# Altium footprint library TMDX654GPEVM_BRD.PcbLib: 153 footprints (part 7 of 12)
Each footprint in its own frame and in the unit in brackets; x right, y up, seen from the top. Pads: shape width x height; smd on the part's side, far side on the other; paste and mask are expansions set on the pad; w line width, h text height; cw(c..) or ccw(c..) is an arc to the next point about the centre after c.
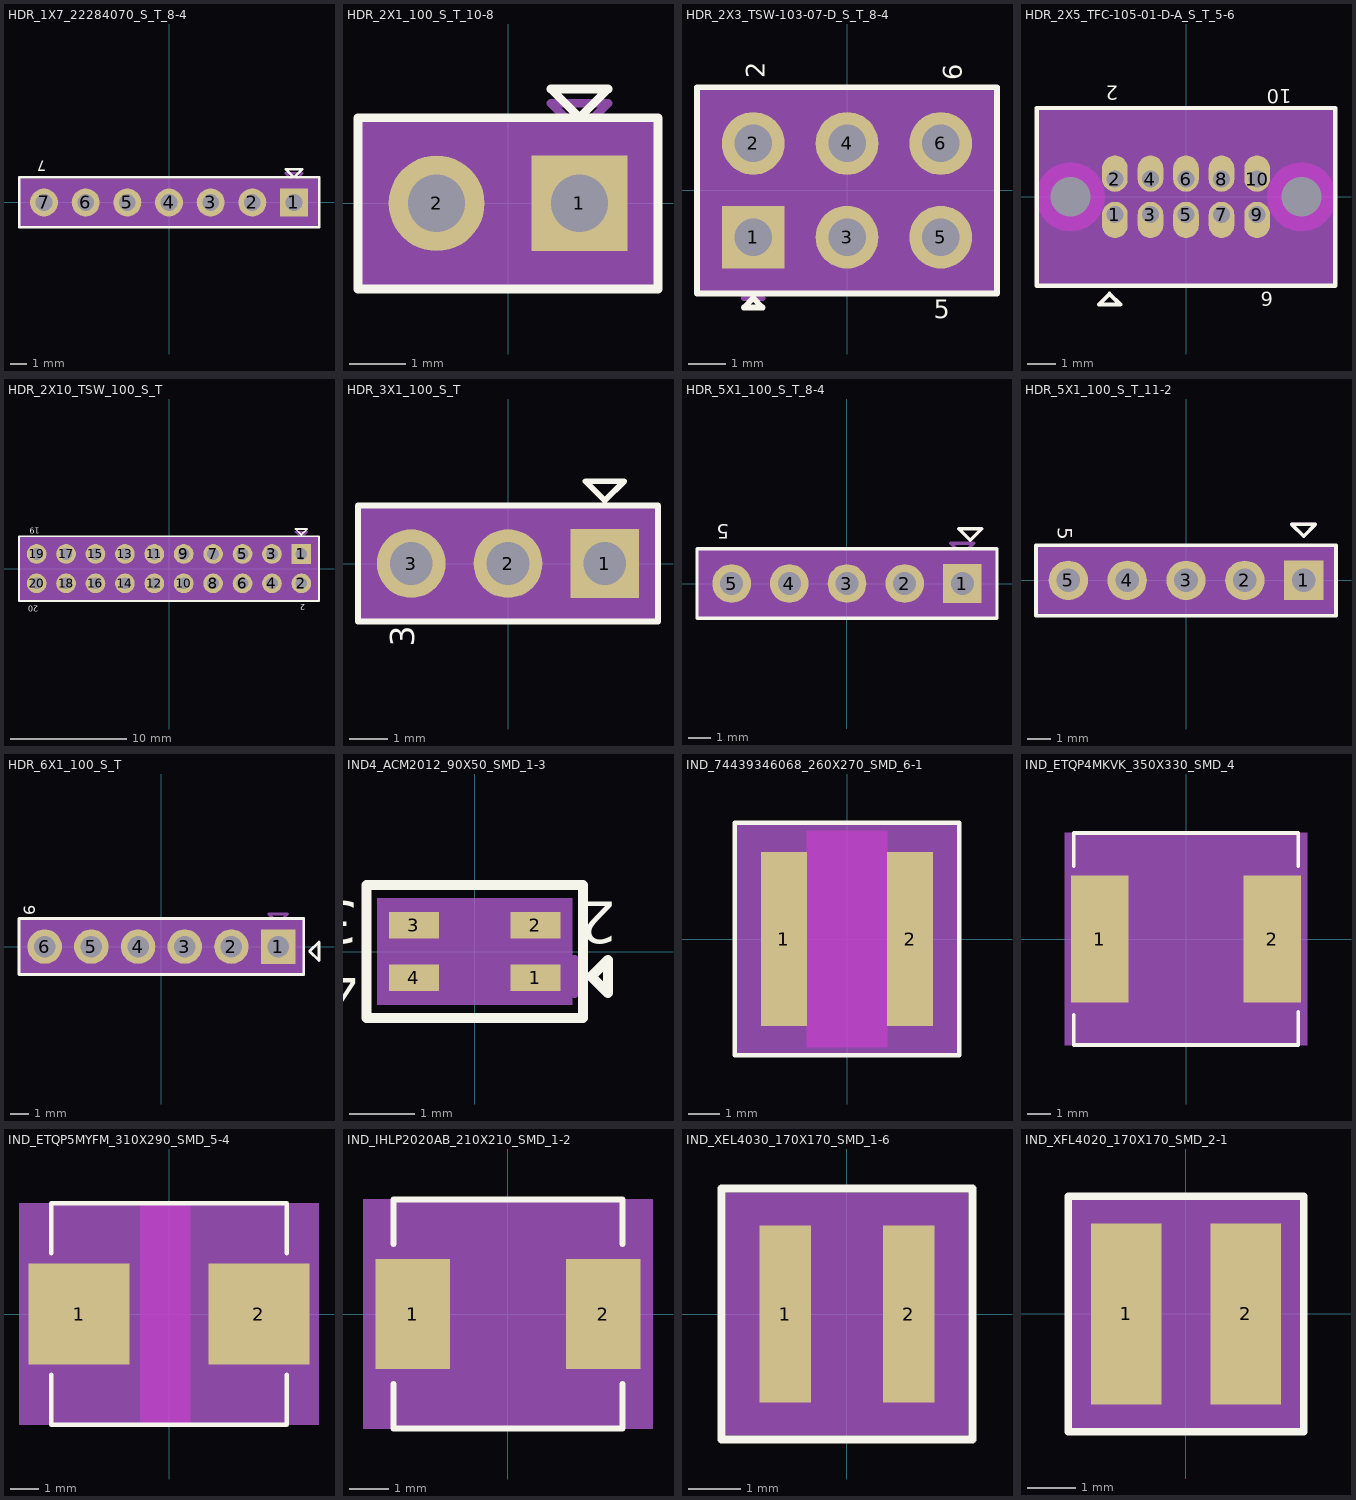
[diagram p6: the footprints below, top view; thin cyan lines are the x and y axes]

## HDR_1X7_22284070_S_T_8-4 [mil] "HDR_1X7_22284070_S_T_8-4"
pads (7):
  rect 67x67 / inner round 67 / far side rect 67x67 hole 40: 1(300,0)
  round 67 hole 40: 2(200,0) 3(100,0) 4(0,0) 5(-100,0) 6(-200,0) 7(-300,0)
Top Overlay:
  lines w6: -360,-60 360,-60 360,60 -360,60 -360,-60 ; 280,80 320,80 300,60 280,80
  text "7" at -294.5,99.5 h25
  text ".Designator" at -366,20 h30
Top Courtyard:
  dashed: -357,-57 357,-57 357,57 -357,57
Top 3D Body:
  region: -350,-50 350,-50 350,50 -350,50
Mechanical 10:
  lines w6: -350,-50 -350,50 350,50 350,-50 -350,-50 ; 280,70 320,70 300,50 280,70
  text "J19" at 31,18 h30
Mechanical 11:
  lines w6: -350,-50 -350,50 350,50 350,-50 -350,-50 ; 280,70 320,70 300,50 280,70
  text "J19" at 31,18 h30
Mechanical 12:
  lines w6: -350,-50 -350,50 350,50 350,-50 -350,-50 ; 280,70 320,70 300,50 280,70
  text "J19" at 31,18 h30
Mechanical 13:
  lines w6: -350,-50 -350,50 350,50 350,-50 -350,-50 ; 280,70 320,70 300,50 280,70
  text "J19" at 31,18 h30
Mechanical 14:
  lines w6: -350,-50 -350,50 350,50 350,-50 -350,-50 ; 280,70 320,70 300,50 280,70
  text "J19" at 31,18 h30
Mechanical47:
  text "1" at 304,-3.33 h10
  text "2" at 204,-3.33 h10
  text "3" at 104,-3.33 h10
  text "4" at 4,-3.33 h10
  text "5" at -96,-3.33 h10
  text "6" at -196,-3.33 h10
  text "7" at -296,-3.33 h10
Top Assembly:
  lines w6: -350,-50 -350,50 350,50 350,-50 -350,-50 ; 280,70 320,70 300,50 280,70
3D body: height 150, standoff 0, extent -350,-50 350,50

## HDR_2X1_100_S_T_10-8 [mil] "HDR_2X1_100_S_T_10-8"
pads (2):
  rect 67x67 / inner round 67 / far side rect 67x67 hole 40: 1(50,0)
  round 67 hole 40: 2(-50,0)
Top Overlay:
  lines w6: -105,-60 105,-60 105,60 -105,60 -105,-60 ; 30,80 70,80 50,60 30,80
  text ".Designator" at -83.02,72.48 h30
Top Courtyard:
  lines w1: -102,-57 102,-57 102,57 -102,57 -102,-57
Top 3D Body:
  region: -105,-60 105,-60 105,60 -105,60
Mechanical 15:
  lines w6: -95,-50 95,-50 95,50 -95,50 -95,-50 ; 30,70 70,70 50,50 30,70
  text "J25" at -19.02,-33.52 h30
Mechanical 16:
  lines w6: -95,-50 95,-50 95,50 -95,50 -95,-50 ; 30,70 70,70 50,50 30,70
  text "J25" at -19.02,-33.52 h30
Mechanical 17:
  lines w6: -95,-50 95,-50 95,50 -95,50 -95,-50 ; 30,70 70,70 50,50 30,70
  text "J25" at -19.02,-33.52 h30
Mechanical 18:
  lines w6: -95,-50 95,-50 95,50 -95,50 -95,-50 ; 30,70 70,70 50,50 30,70
  text "J25" at -19.02,-33.52 h30
Mechanical 19:
  lines w6: -95,-50 95,-50 95,50 -95,50 -95,-50 ; 30,70 70,70 50,50 30,70
  text "J25" at -19.02,-33.52 h30
Mechanical47:
  text "1" at 50,-7.33 h10
  text "2" at -50,-7.33 h10
Top Assembly:
  lines w6: -95,-50 95,-50 95,50 -95,50 -95,-50 ; 30,70 70,70 50,50 30,70
3D body: height 150, standoff 0, extent -105,-60 105,60

## HDR_2X3_TSW-103-07-D_S_T_8-4 [mil] "HDR_2X3_TSW-103-07-D_S_T_8-4"
pads (6):
  rect 67x67 / inner round 67 / far side rect 67x67 hole 40: 1(-100,-50)
  round 67 hole 40: 2(-100,50) 3(0,-50) 4(0,50) 5(100,-50) 6(100,50)
Top Overlay:
  lines w6: -160,-110 -160,110 160,110 160,-110 -160,-110 ; -110,-125 -90,-125 -100,-115 -110,-125
  text "2" at -87.5,119.5 h20
  text "6" at 122.5,117.5 h20
  text "5" at 92.5,-136.67 h20
  text ".Designator" at 24.5,150 h30
Top Courtyard:
  dashed: -157,-107 157,-107 157,107 -157,107
Top 3D Body:
  region: -150,-100 150,-100 150,100 -150,100
Mechanical 10:
  lines w6: -150,-100 -150,100 150,100 150,-100 -150,-100 ; -110,-115 -90,-115 -100,-105 -110,-115
  text "J4" at 12.5,-29 h30
Mechanical 11:
  lines w6: -150,-100 -150,100 150,100 150,-100 -150,-100 ; -110,-115 -90,-115 -100,-105 -110,-115
  text "J4" at 12.5,-29 h30
Mechanical 12:
  lines w6: -150,-100 -150,100 150,100 150,-100 -150,-100 ; -110,-115 -90,-115 -100,-105 -110,-115
  text "J4" at 12.5,-29 h30
Mechanical 13:
  lines w6: -150,-100 -150,100 150,100 150,-100 -150,-100 ; -110,-115 -90,-115 -100,-105 -110,-115
  text "J4" at 12.5,-29 h30
Mechanical 14:
  lines w6: -150,-100 -150,100 150,100 150,-100 -150,-100 ; -110,-115 -90,-115 -100,-105 -110,-115
  text "J4" at 12.5,-29 h30
Mechanical47:
  text "2" at -100,46 h10
  text "6" at 100,46 h10
  text "1" at -100,-54 h10
  text "5" at 100,-54 h10
  text "4" at 0,46 h10
  text "3" at 0,-54 h10
Top Assembly:
  lines w6: -150,-100 -150,100 150,100 150,-100 -150,-100 ; -110,-115 -90,-115 -100,-105 -110,-115
3D body: height 150, standoff 0, extent -150,-100 150,100

## HDR_2X5_TFC-105-01-D-A_S_T_5-6 [mil] "HDR_2X5_TFC-105-01-D-A_S_T_5-6"
pads (12):
  oval 36x51 hole 24 copper offset 0,-7.5 mask+2: 1(-100,-25) 3(-50,-25) 5(0,-25) 7(50,-25) 9(100,-25)
  oval 36x51 hole 24 copper offset 0,7.5 mask+2: 2(-100,25) 4(-50,25) 6(0,25) 8(50,25) 10(100,25)
  round 51 hole 56 unplated: ""(-162.6,0) ""(162.6,0)
Top Overlay:
  lines w6: -210,-125 210,-125 210,125 -210,125 -210,-125 ; -122.5,-151.54 -107.5,-136.54 -92.5,-151.54 -122.5,-151.54
  text ".Designator" at 59.5,175.96 h30
  text "9" at 105,-154.04 h20
  text "10" at 148.5,150.96 h20
  text "2" at -95,155.96 h20
Top Courtyard:
  dashed: -197.6,-122 -197.6,122 197.6,122 197.6,-122
Top 3D Body:
  region: -210,125 -210,-125 210,-125 210,125
Mechanical 10:
  lines w6: -190,-115 170,-115 190,-95 190,95 170,115 -190,115 -190,-115 ; -140,-70 140,-70 140,90 30,90 30,70 -140,70 -140,-70 ; -115,-87.5 -100,-72.5 -85,-87.5 -115,-87.5
  text "J6" at 22.5,-124.04 h30
Mechanical 11:
  lines w6: -190,-115 170,-115 190,-95 190,95 170,115 -190,115 -190,-115 ; -140,-70 140,-70 140,90 30,90 30,70 -140,70 -140,-70 ; -115,-87.5 -100,-72.5 -85,-87.5 -115,-87.5
  text "J6" at 22.5,-124.04 h30
Mechanical 12:
  lines w6: -190,-115 170,-115 190,-95 190,95 170,115 -190,115 -190,-115 ; -140,-70 140,-70 140,90 30,90 30,70 -140,70 -140,-70 ; -115,-87.5 -100,-72.5 -85,-87.5 -115,-87.5
  text "J6" at 22.5,-124.04 h30
Mechanical 13:
  lines w6: -190,-115 170,-115 190,-95 190,95 170,115 -190,115 -190,-115 ; -140,-70 140,-70 140,90 30,90 30,70 -140,70 -140,-70 ; -115,-87.5 -100,-72.5 -85,-87.5 -115,-87.5
  text "J6" at 22.5,-124.04 h30
Mechanical 14:
  lines w6: -190,-115 170,-115 190,-95 190,95 170,115 -190,115 -190,-115 ; -140,-70 140,-70 140,90 30,90 30,70 -140,70 -140,-70 ; -115,-87.5 -100,-72.5 -85,-87.5 -115,-87.5
  text "J6" at 22.5,-124.04 h30
Multi-Layer keep-out:
  region: 114.18,0 115.83,-12.53 120.67,-24.21 128.36,-34.23 138.39,-41.93 150.07,-46.76 162.6,-48.41 175.13,-46.76 186.81,-41.93 196.83,-34.23 204.53,-24.21 209.36,-12.53 211.01,0 209.36,12.53 204.53,24.21 196.83,34.23 186.81,41.93 175.13,46.76 162.6,48.41 150.07,46.76 138.39,41.93 128.36,34.23 120.67,24.21 115.83,12.53
  region: -211.01,0 -209.36,-12.53 -204.53,-24.21 -196.83,-34.23 -186.81,-41.93 -175.13,-46.76 -162.6,-48.41 -150.07,-46.76 -138.39,-41.93 -128.36,-34.23 -120.67,-24.21 -115.83,-12.53 -114.18,0 -115.83,12.53 -120.67,24.21 -128.36,34.23 -138.39,41.93 -150.07,46.76 -162.6,48.41 -175.13,46.76 -186.81,41.93 -196.83,34.23 -204.53,24.21 -209.36,12.53
Mechanical47:
  text "1" at -87,-30 h10
  text "9" at 113,-30 h10
  text "7" at 63,-30 h10
  text "8" at 54,20 h10
  text "10" at 108,20 h10
  text "5" at 13,-30 h10
  text "6" at 4,20 h10
  text "4" at -46,20 h10
  text "3" at -37,-30 h10
  text "2" at -96,20 h10
Top Assembly:
  lines w6: -190,-115 170,-115 190,-95 190,95 170,115 -190,115 -190,-115 ; -140,-70 140,-70 140,90 30,90 30,70 -140,70 -140,-70 ; -115,-87.5 -100,-72.5 -85,-87.5 -115,-87.5
3D body: height 150, standoff 0, extent -210,-125 210,125

## HDR_2X10_TSW_100_S_T [mil] "HDR_2X10_TSW_100_S_T"
pads (20):
  rect 67x67 / inner round 67 / far side rect 67x67 hole 40: 1(450,50)
  round 67 hole 40: 2(450,-50) 3(350,50) 4(350,-50) 5(250,50) 6(250,-50) 7(150,50) 8(150,-50) 9(50,50) 10(50,-50) 11(-50,50) 12(-50,-50) 13(-150,50) 14(-150,-50) 15(-250,50) 16(-250,-50) 17(-350,50) 18(-350,-50) 19(-450,50) 20(-450,-50)
Top Overlay:
  lines w6: -510,-110 -510,110 510,110 510,-110 -510,-110 ; 430,135 450,115 470,135 430,135
  text ".Designator" at 94.02,168.35 h30
  text "19" at -438.98,138.35 h20
  text "20" at -443.98,-126.65 h20
  text "2" at 462.52,-121.65 h20
Top Courtyard:
  dashed: -507,-107 507,-107 507,107 -507,107
Top 3D Body:
  region: 510,110 -510,110 -510,-110 510,-110
Mechanical 10:
  lines w6: -500,-100 -500,100 500,100 500,-100 -500,-100 ; 430,125 450,105 470,125 430,125
  text "J10" at 43.02,14.35 h30
Mechanical 11:
  lines w6: -500,-100 -500,100 500,100 500,-100 -500,-100 ; 430,125 450,105 470,125 430,125
  text "J10" at 43.02,14.35 h30
Mechanical 12:
  lines w6: -500,-100 -500,100 500,100 500,-100 -500,-100 ; 430,125 450,105 470,125 430,125
  text "J10" at 43.02,14.35 h30
Mechanical 13:
  lines w6: -500,-100 -500,100 500,100 500,-100 -500,-100 ; 430,125 450,105 470,125 430,125
  text "J10" at 43.02,14.35 h30
Mechanical 14:
  lines w6: -500,-100 -500,100 500,100 500,-100 -500,-100 ; 430,125 450,105 470,125 430,125
  text "J10" at 43.02,14.35 h30
Mechanical47:
  text "18" at -342,-53.33 h10
  text "16" at -242,-53.33 h10
  text "1" at 454,46.67 h10
  text "7" at 154,46.67 h10
  text "13" at -142,46.67 h10
  text "19" at -442,46.67 h10
  text "8" at 154,-53.33 h10
  text "14" at -142,-53.33 h10
  text "20" at -442,-53.33 h10
  text "17" at -342,46.67 h10
  text "12" at -42,-53.33 h10
  text "10" at 58,-53.33 h10
  text "4" at 354,-53.33 h10
  text "3" at 354,46.67 h10
  text "6" at 254,-53.33 h10
  text "15" at -242,46.67 h10
  text "9" at 54,46.67 h10
  text "2" at 454,-53.33 h10
  text "11" at -42,46.67 h10
  text "5" at 254,46.67 h10
Top Assembly:
  lines w6: -500,-100 -500,100 500,100 500,-100 -500,-100 ; 430,125 450,105 470,125 430,125
3D body: height 150, standoff 0, extent -510,-110 510,110

## HDR_3X1_100_S_T [mil] "HDR_3X1_100_S_T"
pads (3):
  rect 71x71 / inner round 71 / far side rect 71x71 hole 44: 1(100,0)
  round 71 hole 44: 2(0,0) 3(-100,0)
Top Overlay:
  lines w6: -155,-60 -155,60 155,60 155,-60 -155,-60 ; 80,85 100,65 120,85 80,85
  text ".Designator" at 200,-47.5 h30
  text "3" at -96.67,-86 h25
Top Courtyard:
  dashed: -152,-57 152,-57 152,57 -152,57
Top 3D Body:
  region: -155,-60 155,-60 155,60 -155,60
Mechanical 10:
  lines w6: -145,-50 -145,50 145,50 145,-50 -145,-50 ; 80,50 100,30 120,50 80,50
  text "J33" at -7,-97.5 h30
Mechanical 11:
  lines w6: -145,-50 -145,50 145,50 145,-50 -145,-50 ; 80,50 100,30 120,50 80,50
  text "J33" at -7,-97.5 h30
Mechanical 12:
  lines w6: -145,-50 -145,50 145,50 145,-50 -145,-50 ; 80,50 100,30 120,50 80,50
  text "J33" at -7,-97.5 h30
Mechanical 13:
  lines w6: -145,-50 -145,50 145,50 145,-50 -145,-50 ; 80,50 100,30 120,50 80,50
  text "J33" at -7,-97.5 h30
Mechanical 14:
  lines w6: -145,-50 -145,50 145,50 145,-50 -145,-50 ; 80,50 100,30 120,50 80,50
  text "J33" at -7,-97.5 h30
Mechanical47:
  text "1" at 100,-7.33 h10
  text "2" at 0,-7.33 h10
  text "3" at -100,-7.33 h10
Top Assembly:
  lines w6: -145,-50 -145,50 145,50 145,-50 -145,-50 ; 80,50 100,30 120,50 80,50
3D body: height 150, standoff 0, extent -155,-60 155,60

## HDR_5X1_100_S_T_8-4 [mil] "HDR_5X1_100_S_T_8-4"
pads (5):
  rect 67x67 / inner round 67 / far side rect 67x67 hole 40: 1(200,0)
  round 67 hole 40: 2(100,0) 3(0,0) 4(-100,0) 5(-200,0)
Top Overlay:
  lines w6: -260,-60 -260,60 260,60 260,-60 -260,-60 ; 193.48,95.16 213.48,75.16 233.48,95.16 193.48,95.16
  text ".Designator" at 187.48,-74.84 h30
  text "5" at -204.02,102.66 h25
Top Courtyard:
  dashed: -257,-57 257,-57 257,57 -257,57
Top 3D Body:
  region: 260,-60 260,60 -260,60 -260,-60
Mechanical 10:
  lines w6: -250,-50 -250,50 250,50 250,-50 -250,-50 ; 180,70 200,50 220,70 180,70
  text "J20" at 34.48,10.16 h30
Mechanical 11:
  lines w6: -250,-50 -250,50 250,50 250,-50 -250,-50 ; 180,70 200,50 220,70 180,70
  text "J20" at 34.48,10.16 h30
Mechanical 12:
  lines w6: -250,-50 -250,50 250,50 250,-50 -250,-50 ; 180,70 200,50 220,70 180,70
  text "J20" at 34.48,10.16 h30
Mechanical 13:
  lines w6: -250,-50 -250,50 250,50 250,-50 -250,-50 ; 180,70 200,50 220,70 180,70
  text "J20" at 34.48,10.16 h30
Mechanical 14:
  lines w6: -250,-50 -250,50 250,50 250,-50 -250,-50 ; 180,70 200,50 220,70 180,70
  text "J20" at 34.48,10.16 h30
Mechanical47:
  text "2" at 104,-3.33 h10
  text "1" at 204,-3.33 h10
  text "3" at 4,-3.33 h10
  text "4" at -96,-3.33 h10
  text "5" at -196,-3.33 h10
Top Assembly:
  lines w6: -250,-50 -250,50 250,50 250,-50 -250,-50 ; 180,70 200,50 220,70 180,70
3D body: height 150, standoff 0, extent -260,-60 260,60

## HDR_5X1_100_S_T_11-2 [mil] "HDR_5X1_100_S_T_11-2"
pads (5):
  rect 67x67 / inner round 67 / far side rect 67x67 hole 40: 1(200,0)
  round 67 hole 40: 2(100,0) 3(0,0) 4(-100,0) 5(-200,0)
Top Overlay:
  lines w6: -255,-60 -255,60 255,60 255,-60 -255,-60 ; 180,95 200,75 220,95 180,95
  text ".Designator" at -29,75 h30
  text "5" at -217.91,90.52 h25
Top Courtyard:
  dashed: -252,-57 252,-57 252,57 -252,57
Top 3D Body:
  region: 255,-60 255,60 -255,60 -255,-60
Mechanical 10:
  lines w6: -245,-50 -245,50 245,50 245,-50 -245,-50 ; 180,95 200,75 220,95 180,95
  text "J21" at -15.41,39.02 h30
Mechanical 11:
  lines w6: -245,-50 -245,50 245,50 245,-50 -245,-50 ; 180,95 200,75 220,95 180,95
  text "J21" at -15.41,39.02 h30
Mechanical 12:
  lines w6: -245,-50 -245,50 245,50 245,-50 -245,-50 ; 180,95 200,75 220,95 180,95
  text "J21" at -15.41,39.02 h30
Mechanical 13:
  lines w6: -245,-50 -245,50 245,50 245,-50 -245,-50 ; 180,95 200,75 220,95 180,95
  text "J21" at -15.41,39.02 h30
Mechanical 14:
  lines w6: -245,-50 -245,50 245,50 245,-50 -245,-50 ; 180,95 200,75 220,95 180,95
  text "J21" at -15.41,39.02 h30
Mechanical47:
  text "5" at -200,0.67 h10
  text "2" at 100,0.67 h10
  text "4" at -100,0.67 h10
  text "1" at 200,0.67 h10
  text "3" at 0,0.67 h10
Top Assembly:
  lines w6: -245,-50 -245,50 245,50 245,-50 -245,-50 ; 180,95 200,75 220,95 180,95
3D body: height 150, standoff 0, extent -255,-60 255,60

## HDR_6X1_100_S_T [mil] "HDR_6X1_100_S_T"
pads (6):
  rect 74x74 / inner round 74 / far side rect 74x74 hole 46: 1(250,0)
  round 74 hole 46: 2(150,0) 3(50,0) 4(-50,0) 5(-150,0) 6(-250,0)
Top Overlay:
  lines w6: -305,-60 -305,60 305,60 305,-60 -305,-60 ; 317.5,-10 337.5,10 337.5,-30 317.5,-10
  text ".Designator" at 357.5,41 h30
  text "6" at -270,67.5 h25
Top Courtyard:
  dashed: -302,-57 302,-57 302,57 -302,57
Top 3D Body:
  region: -305,-60 305,-60 305,60 -305,60
Mechanical 10:
  lines w6: -295,-50 -295,50 295,50 295,-50 -295,-50 ; 230,70 250,50 270,70 230,70
  text "J11" at 12.5,-36 h30
Mechanical 11:
  lines w6: -295,-50 -295,50 295,50 295,-50 -295,-50 ; 230,70 250,50 270,70 230,70
  text "J11" at 12.5,-36 h30
Mechanical 12:
  lines w6: -295,-50 -295,50 295,50 295,-50 -295,-50 ; 230,70 250,50 270,70 230,70
  text "J11" at 12.5,-36 h30
Mechanical 13:
  lines w6: -295,-50 -295,50 295,50 295,-50 -295,-50 ; 230,70 250,50 270,70 230,70
  text "J11" at 12.5,-36 h30
Mechanical 14:
  lines w6: -295,-50 -295,50 295,50 295,-50 -295,-50 ; 230,70 250,50 270,70 230,70
  text "J11" at 12.5,-36 h30
Mechanical47:
  text "2" at 150,-7.33 h10
  text "4" at -50,-7.33 h10
  text "5" at -150,-7.33 h10
  text "1" at 250,-7.33 h10
  text "6" at -250,-7.33 h10
  text "3" at 50,-7.33 h10
Top Assembly:
  lines w6: -295,-50 -295,50 295,50 295,-50 -295,-50 ; 230,70 250,50 270,70 230,70
3D body: height 150, standoff 0, extent -305,-60 305,60

## IND4_ACM2012_90X50_SMD_1-3 [mil] "IND4_ACM2012_90X50_SMD_1-3"
pads (4):
  rect 30x16 smd: 1(36.42,-15.75) 2(36.42,15.75) 3(-36.42,15.75) 4(-36.42,-15.75)
Top Overlay:
  lines w6: -65,-40 65,-40 65,40 -65,40 -65,-40 ; 70,-15 80,-5 80,-25 70,-15
  text "2" at 85,30 h25
  text "3" at -70,30 h25
  text "4" at -70,-10 h25
  text ".Designator" at 34,-55 h30
Top Courtyard:
  dashed: 58.42,32 58.42,-32 -58.42,-32 -58.42,32
Top 3D Body:
  region: 45,25 -45,25 -45,-25 45,-25
Mechanical 15:
  lines w6: -45,-25 45,-25 45,25 -45,25 -45,-25 ; 50,-15 60,-5 60,-25 50,-15
  text "FL8" at 36,16 h30
Mechanical 16:
  lines w6: -45,-25 45,-25 45,25 -45,25 -45,-25 ; 50,-15 60,-5 60,-25 50,-15
  text "FL8" at 36,16 h30
Mechanical 17:
  lines w6: -45,-25 45,-25 45,25 -45,25 -45,-25 ; 50,-15 60,-5 60,-25 50,-15
  text "FL8" at 36,16 h30
Mechanical 18:
  lines w6: -45,-25 45,-25 45,25 -45,25 -45,-25 ; 50,-15 60,-5 60,-25 50,-15
  text "FL8" at 36,16 h30
Mechanical 19:
  lines w6: -45,-25 45,-25 45,25 -45,25 -45,-25 ; 50,-15 60,-5 60,-25 50,-15
  text "FL8" at 36,16 h30
Mechanical47:
  text "1" at 32.42,-15.75 h10
  text "4" at -40.42,-15.75 h10
  text "2" at 32.42,15.75 h10
  text "3" at -40.42,15.75 h10
Top Assembly:
  lines w6: -45,-25 45,-25 45,25 -45,25 -45,-25 ; 50,-15 60,-5 60,-25 50,-15
3D body: height 150, standoff 0, extent -45,-25 45,25

## IND_74439346068_260X270_SMD_6-1 [mil] "IND_74439346068_260X270_SMD_6-1"
pads (2):
  rect 57x217 smd: 1(-78.74,0) 2(78.74,0)
Top Layer keep-out:
  region: -50.2,-135 -50.2,135 50.2,135 50.2,-135
Top Overlay:
  lines w6: -140,-145 -140,145 140,145 140,-145 -140,-145
  text ".Designator" at -159.06,8 h30
Top Courtyard:
  dashed: -137,-142 -137,142 137,142 137,-142
Top 3D Body:
  region: -140,-145 -140,145 140,145 140,-145
Mechanical 15:
  lines w6: -130,-135 130,-135 130,135 -130,135 -130,-135
  text "L9" at 10.95,-12 h30
Mechanical 16:
  lines w6: -130,-135 130,-135 130,135 -130,135 -130,-135
  text "L9" at 10.95,-12 h30
Mechanical 17:
  lines w6: -130,-135 130,-135 130,135 -130,135 -130,-135
  text "L9" at 10.95,-12 h30
Mechanical 18:
  lines w6: -130,-135 130,-135 130,135 -130,135 -130,-135
  text "L9" at 10.95,-12 h30
Mechanical 19:
  lines w6: -130,-135 130,-135 130,135 -130,135 -130,-135
  text "L9" at 10.95,-12 h30
Mechanical47:
  text "2" at 78.74,4 h10
  text "1" at -78.74,4 h10
Top Assembly:
  lines w6: -130,-135 130,-135 130,135 -130,135 -130,-135
3D body: height 150, standoff 0, extent -140,-145 140,145

## IND_ETQP4MKVK_350X330_SMD_4 [mil] "IND_ETQP4MKVK_350X330_SMD_4"
pads (2):
  rect 95x210 smd: 1(-142.5,0) 2(142.5,0)
Top Overlay:
  lines w6: -185,-125 -185,-175 185,-175 185,-120 ; -185,120 -185,175 185,175 185,120
  text ".Designator" at 32.8,225 h30
Top Courtyard:
  dashed: -197,-172 -197,172 197,172 197,-172
Top 3D Body:
  region: -200,175 -200,-175 200,-175 200,175
Mechanical 15:
  lines w6: -175,-155 ccw(c-165,-155) -165,-165 165,-165 ccw(c165,-155) 175,-155 175,155 ccw(c165,155) 165,165 -165,165 ccw(c-165,155) -175,155 -175,-155
  text "L10" at 28.8,-34 h30
Mechanical 16:
  lines w6: -175,-155 ccw(c-165,-155) -165,-165 165,-165 ccw(c165,-155) 175,-155 175,155 ccw(c165,155) 165,165 -165,165 ccw(c-165,155) -175,155 -175,-155
  text "L10" at 28.8,-34 h30
Mechanical 17:
  lines w6: -175,-155 ccw(c-165,-155) -165,-165 165,-165 ccw(c165,-155) 175,-155 175,155 ccw(c165,155) 165,165 -165,165 ccw(c-165,155) -175,155 -175,-155
  text "L10" at 28.8,-34 h30
Mechanical 18:
  lines w6: -175,-155 ccw(c-165,-155) -165,-165 165,-165 ccw(c165,-155) 175,-155 175,155 ccw(c165,155) 165,165 -165,165 ccw(c-165,155) -175,155 -175,-155
  text "L10" at 28.8,-34 h30
Mechanical 19:
  lines w6: -175,-155 ccw(c-165,-155) -165,-165 165,-165 ccw(c165,-155) 175,-155 175,155 ccw(c165,155) 165,165 -165,165 ccw(c-165,155) -175,155 -175,-155
  text "L10" at 28.8,-34 h30
Mechanical47:
  text "2" at 142.5,4 h10
  text "1" at -142.5,4 h10
Top Assembly:
  lines w6: -175,-155 ccw(c-165,-155) -165,-165 165,-165 ccw(c165,-155) 175,-155 175,155 ccw(c165,155) 165,165 -165,165 ccw(c-165,155) -175,155 -175,-155
3D body: height 150, standoff 0, extent -200,-175 200,175

## IND_ETQP5MYFM_310X290_SMD_5-4 [mil] "IND_ETQP5MYFM_310X290_SMD_5-4"
pads (2):
  rect 142x142 smd: 1(-125.98,0) 2(125.98,0)
Top Layer keep-out:
  region: -40,157.48 30,157.48 30,-157.48 -40,-157.48
Top Overlay:
  lines w6: -165,-85 -165,-155 165,-155 165,-85 ; -165,85 -165,155 165,155 165,85
  text ".Designator" at 215,17 h30
Top Courtyard:
  dashed: -203.98,-152 -203.98,152 203.98,152 203.98,-152
Top 3D Body:
  region: -210,155 -210,-155 210,-155 210,155
Mechanical 10:
  lines w6: -155,-145 155,-145 155,145 -155,145 -155,-145
  text "L1" at -10,22 h30
Mechanical 11:
  lines w6: -155,-145 155,-145 155,145 -155,145 -155,-145
  text "L1" at -10,22 h30
Mechanical 12:
  lines w6: -155,-145 155,-145 155,145 -155,145 -155,-145
  text "L1" at -10,22 h30
Mechanical 13:
  lines w6: -155,-145 155,-145 155,145 -155,145 -155,-145
  text "L1" at -10,22 h30
Mechanical 14:
  lines w6: -155,-145 155,-145 155,145 -155,145 -155,-145
  text "L1" at -10,22 h30
Mechanical47:
  text "1" at -125.98,4 h10
  text "2" at 125.98,4 h10
Top Assembly:
  lines w6: -155,-145 155,-145 155,145 -155,145 -155,-145
3D body: height 150, standoff 0, extent -210,-155 210,155

## IND_IHLP2020AB_210X210_SMD_1-2 [mil] "IND_IHLP2020AB_210X210_SMD_1-2"
pads (2):
  rect 75x110 smd: 1(-95.49,0) 2(95.49,0)
Top Overlay:
  lines w6: -115,-70 -115,-115 115,-115 115,-70 ; -115,70 -115,115 115,115 115,70
  text ".Designator" at -181.22,15.05 h30
Top Courtyard:
  dashed: -139.99,-112 -139.99,112 139.99,112 139.99,-112
Top 3D Body:
  region: -145,115 -145,-115 145,-115 145,115
Mechanical 15:
  lines w6: -105,-105 105,-105 105,105 -105,105 -105,-105
  text "L6" at 25.78,18.05 h30
Mechanical 16:
  lines w6: -105,-105 105,-105 105,105 -105,105 -105,-105
  text "L6" at 25.78,18.05 h30
Mechanical 17:
  lines w6: -105,-105 105,-105 105,105 -105,105 -105,-105
  text "L6" at 25.78,18.05 h30
Mechanical 18:
  lines w6: -105,-105 105,-105 105,105 -105,105 -105,-105
  text "L6" at 25.78,18.05 h30
Mechanical 19:
  lines w6: -105,-105 105,-105 105,105 -105,105 -105,-105
  text "L6" at 25.78,18.05 h30
Mechanical47:
  text "1" at -99.49,0 h10
  text "2" at 91.49,0 h10
Top Assembly:
  lines w6: -105,-105 105,-105 105,105 -105,105 -105,-105
3D body: height 150, standoff 0, extent -145,-115 145,115

## IND_XEL4030_170X170_SMD_1-6 [mil] "IND_XEL4030_170X170_SMD_1-6"
pads (2):
  rect 39x134 smd: 1(-46.65,0) 2(46.65,0)
Top Overlay:
  lines w6: -95,-95 95,-95 95,95 -95,95 -95,-95
  text ".Designator" at 10.35,140.02 h30
Top Courtyard:
  dashed: -92,-92 -92,92 92,92 92,-92
Top 3D Body:
  region: -85,-85 85,-85 85,85 -85,85
Mechanical 15:
  lines w6: -85,-85 85,-85 85,85 -85,85 -85,-85
  text "L5" at 16.35,-7.98 h30
Mechanical 16:
  lines w6: -85,-85 85,-85 85,85 -85,85 -85,-85
  text "L5" at 16.35,-7.98 h30
Mechanical 17:
  lines w6: -85,-85 85,-85 85,85 -85,85 -85,-85
  text "L5" at 16.35,-7.98 h30
Mechanical 18:
  lines w6: -85,-85 85,-85 85,85 -85,85 -85,-85
  text "L5" at 16.35,-7.98 h30
Mechanical 19:
  lines w6: -85,-85 85,-85 85,85 -85,85 -85,-85
  text "L5" at 16.35,-7.98 h30
Mechanical47:
  text "1" at -46.65,4 h10
  text "2" at 46.65,4 h10
Top Assembly:
  lines w6: -85,-85 85,-85 85,85 -85,85 -85,-85
3D body: height 150, standoff 0, extent -85,-85 85,85

## IND_XFL4020_170X170_SMD_2-1 [mil] "IND_XFL4020_170X170_SMD_2-1"
pads (2):
  rect 57x146 smd: 1(-48.23,0) 2(48.23,0)
Top Overlay:
  lines w6: -95,-95 -95,95 95,95 95,-95 -95,-95
  text ".Designator" at -3,142.48 h30
Top Courtyard:
  dashed: -92,-92 -92,92 92,92 92,-92
Top 3D Body:
  region: -95,-95 -95,95 95,95 95,-95
Mechanical 15:
  lines w6: -85,-85 85,-85 85,85 -85,85 -85,-85
  text "L7" at 22,17.48 h30
Mechanical 16:
  lines w6: -85,-85 85,-85 85,85 -85,85 -85,-85
  text "L7" at 22,17.48 h30
Mechanical 17:
  lines w6: -85,-85 85,-85 85,85 -85,85 -85,-85
  text "L7" at 22,17.48 h30
Mechanical 18:
  lines w6: -85,-85 85,-85 85,85 -85,85 -85,-85
  text "L7" at 22,17.48 h30
Mechanical 19:
  lines w6: -85,-85 85,-85 85,85 -85,85 -85,-85
  text "L7" at 22,17.48 h30
Mechanical47:
  text "1" at -52.23,0 h10
  text "2" at 44.23,0 h10
Top Assembly:
  lines w6: -85,-85 85,-85 85,85 -85,85 -85,-85
3D body: height 150, standoff 0, extent -95,-95 95,95